# Altium footprint library HV9006_MEASUREBOARD.PCBLIB: 292 footprints (part 8 of 19)
Each footprint in its own frame and in the unit in brackets; x right, y up, seen from the top. Pads: shape width x height; smd on the part's side, far side on the other; paste and mask are expansions set on the pad; w line width, h text height; cw(c..) or ccw(c..) is an arc to the next point about the centre after c.
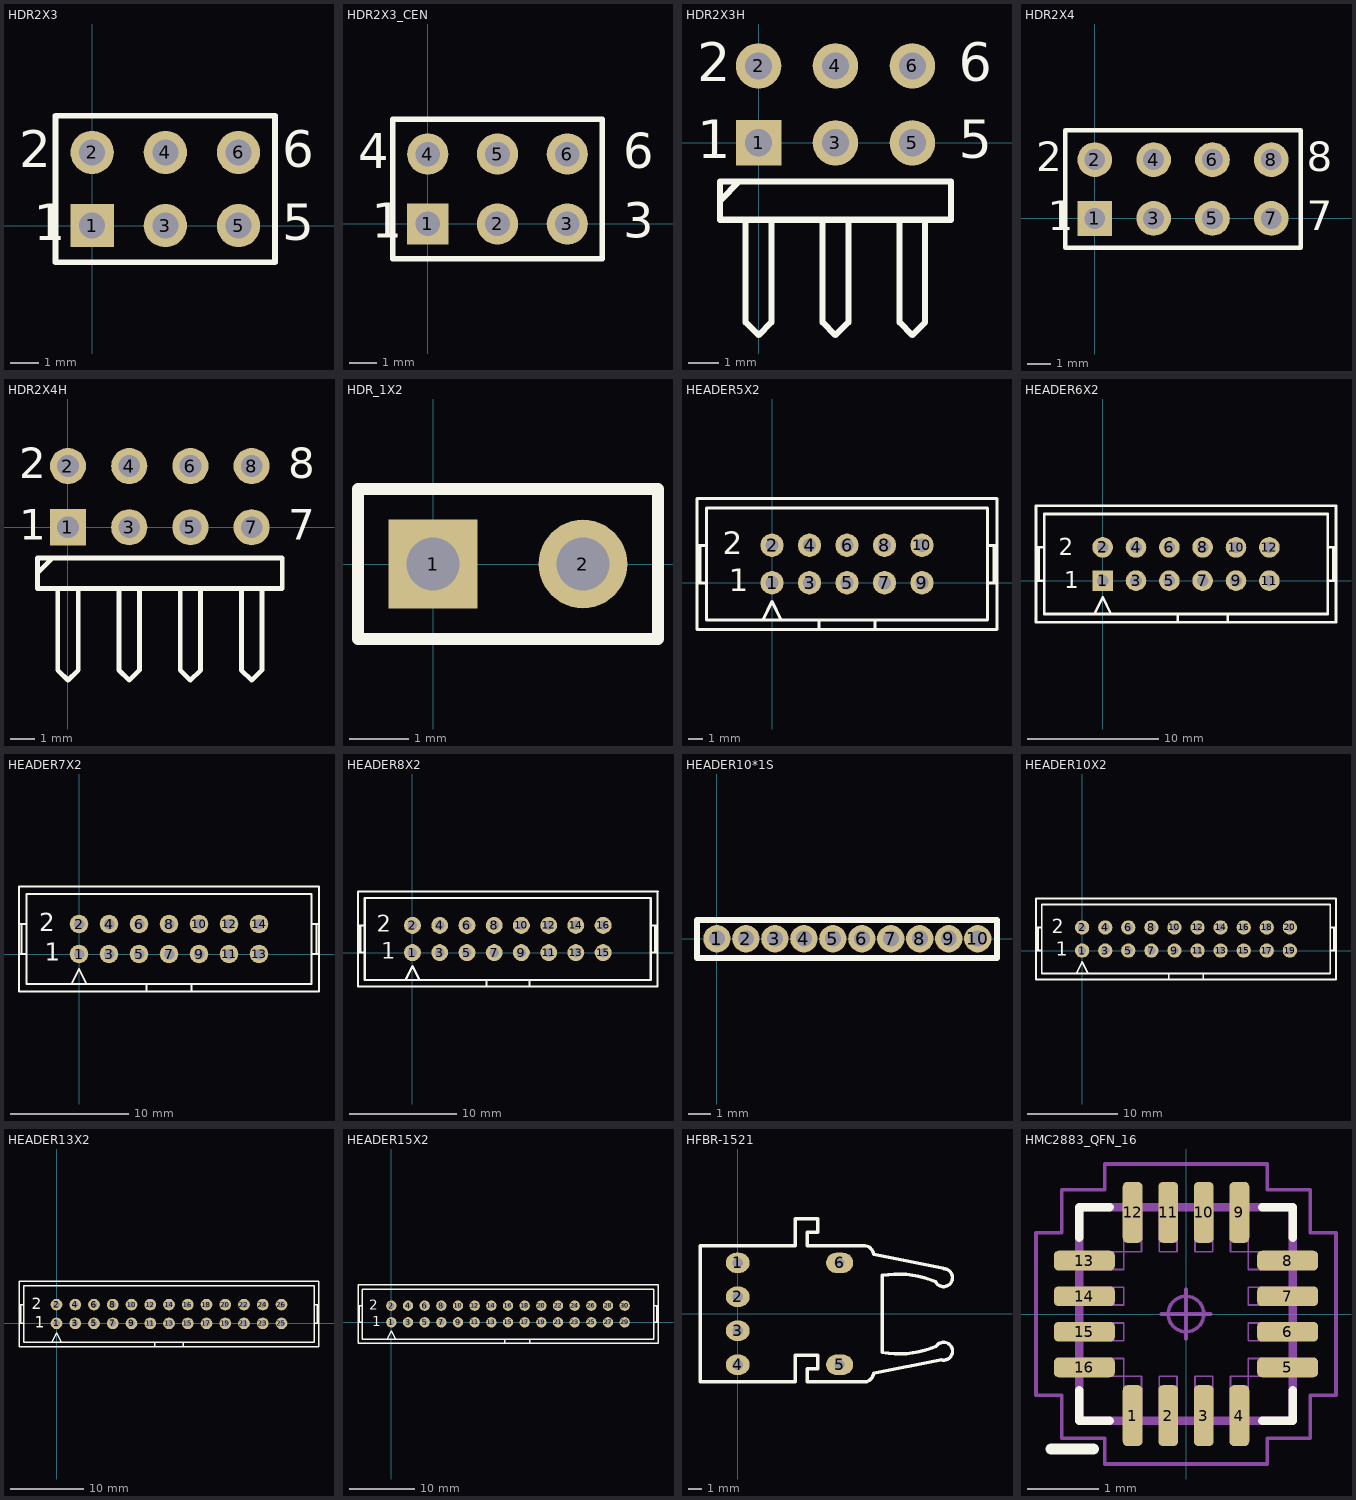
[diagram p7: the footprints below, top view; thin cyan lines are the x and y axes]

## HDR2X3 [mm] "Connector; Header; 3x2 Position"
pads (6):
  rect 1.5x1.5 hole 0.9: 1(0,0)
  round 1.5 hole 0.9: 2(0,2.54) 3(2.54,0) 4(2.54,2.54) 5(5.08,0) 6(5.08,2.54)
Top Overlay:
  lines w0.2: 1.482,-1.27 6.35,-1.27 ; 6.35,-1.27 -1.27,-1.27 -1.27,3.81 6.35,3.81 6.35,-1.27
  text "1" at -2.032,-0.508 h1.27
  text "2" at -2.54,2.032 h1.27
  text "5" at 6.604,-0.508 h1.27
  text "6" at 6.604,2.032 h1.27

## HDR2X3_CEN [mm] "Connector; Header; 3x2 Position"
pads (6):
  rect 1.5x1.5 hole 0.9: 1(0,0)
  round 1.5 hole 0.9: 2(2.54,0) 3(5.08,0) 4(0,2.54) 5(2.54,2.54) 6(5.08,2.54)
Top Overlay:
  lines w0.2: -1.27,-1.27 6.35,-1.27 6.35,3.81 -1.27,3.81 -1.27,-1.27
  text "6" at 7.112,2.032 h1.27
  text "3" at 7.112,-0.508 h1.27
  text "1" at -2.032,-0.508 h1.27
  text "4" at -2.54,2.032 h1.27

## HDR2X3H [mm] "Connector; Header; 3x2 Position; Right Angle"
pads (6):
  rect 1.5x1.5 hole 0.9: 1(0,0)
  round 1.5 hole 0.9: 2(0,2.54) 3(2.54,0) 4(2.54,2.54) 5(5.08,0) 6(5.08,2.54)
Top Overlay:
  lines w0.2: -1.27,-1.905 -0.635,-1.27 ; -0.423,-2.54 -0.423,-5.927 0,-6.35 0.423,-5.927 0.423,-2.54 ; 2.117,-2.54 2.117,-5.927 2.54,-6.35 2.963,-5.927 2.963,-2.54 ; 4.657,-2.54 4.657,-5.927 5.08,-6.35 5.503,-5.927 5.503,-2.54 ; -1.27,-2.54 6.35,-2.54 6.35,-1.27 -1.27,-1.27 -1.27,-2.54
  text "2" at -2.032,2.032 h1.27
  text "1" at -2.032,-0.508 h1.27
  text "5" at 6.604,-0.508 h1.27
  text "6" at 6.604,2.032 h1.27

## HDR2X4 [mm] "Connector; Header; 4x2 Position"
pads (8):
  rect 1.5x1.5 hole 0.9: 1(0,0)
  round 1.5 hole 0.9: 2(0,2.54) 3(2.54,0) 4(2.54,2.54) 5(5.08,0) 6(5.08,2.54) 7(7.62,0) 8(7.62,2.54)
Top Overlay:
  lines w0.2: -1.27,-1.27 -1.27,3.81 8.89,3.81 8.89,-1.27 -1.27,-1.27
  text "8" at 9.144,2.032 h1.27
  text "7" at 9.144,-0.508 h1.27
  text "1" at -2.032,-0.508 h1.27
  text "2" at -2.54,2.032 h1.27

## HDR2X4H [mm] "Connector; Header; 4x2 Position; Right Angle"
pads (8):
  rect 1.5x1.5 hole 0.9: 1(0,0)
  round 1.5 hole 0.9: 2(0,2.54) 3(2.54,0) 4(2.54,2.54) 5(5.08,0) 6(5.08,2.54) 7(7.62,0) 8(7.62,2.54)
Top Overlay:
  lines w0.2: -1.27,-1.905 -0.635,-1.27 ; -0.423,-2.54 -0.423,-5.927 0,-6.35 0.423,-5.927 0.423,-2.54 ; 2.117,-2.54 2.117,-5.927 2.54,-6.35 2.963,-5.927 2.963,-2.54 ; 4.657,-2.54 4.657,-5.927 5.08,-6.35 5.503,-5.927 5.503,-2.54 ; 7.197,-2.54 7.197,-5.927 7.62,-6.35 8.043,-5.927 8.043,-2.54 ; -1.27,-2.54 -1.27,-1.27 8.89,-1.27 8.89,-2.54 -1.27,-2.54
  text "8" at 9.144,2.032 h1.27
  text "7" at 9.144,-0.508 h1.27
  text "1" at -2.032,-0.508 h1.27
  text "2" at -2.032,2.032 h1.27

## HDR_1X2 [mm] "Connector; Header; 2 Position"
pads (2):
  rect 1.5x1.5 hole 0.9: 1(0,0)
  round 1.5 hole 0.9: 2(2.54,0)
Top Overlay:
  lines w0.2: -1.27,-1.27 3.81,-1.27 3.81,1.27 -1.27,1.27 -1.27,-1.27
3D body "961102-6404-XX.stp": height 8.02, standoff -3.28, extent -1.24,-1.2 3.84,1.3

## HEADER5X2 [mil]
pads (10):
  round 62 hole 35: 1(0,0) 2(0,100) 3(100,0) 4(100,100) 5(200,0) 6(200,100) 7(300,0) 8(300,100) 9(400,0) 10(400,100)
Top Overlay:
  lines w8: -200,0 -175,0 ; -200,100 -175,100 ; -191.67,0 -191.67,100 ; -25,-100 0,-50 25,-100 ; 125,-125 125,-100 ; 275,-125 275,-100 ; 575,0 600,0 ; 575,100 600,100 ; 591.67,0 591.67,100 ; -200,-125 600,-125 600,225 -200,225 -200,-125 ; -175,-100 225,-100 375,-100 575,-100 575,200 -175,200 -175,-100
  text "2" at -132,76 h60
  text "1" at -115,-23 h60

## HEADER6X2 [mil]
pads (12):
  rect 62x62 hole 35: 1(0,0)
  round 62 hole 35: 2(0,100) 3(100,0) 4(100,100) 5(200,0) 6(200,100) 7(300,0) 8(300,100) 9(400,0) 10(400,100) 11(500,0) 12(500,100)
Top Overlay:
  lines w8: -200,0 -175,0 ; -200,100 -175,100 ; -191.67,0 -191.67,100 ; -25,-100 0,-50 25,-100 ; 225,-125 225,-100 ; 375,-125 375,-100 ; 675,0 700,0 ; 675,100 700,100 ; 691.67,0 691.67,100 ; 225,-100 -175,-100 -175,200 675,200 675,-100 375,-100 ; 225,-100 375,-100 ; -200,-125 -200,225 700,225 700,-125 -200,-125
  text "1" at -115,-23 h50
  text "2" at -132,76 h50

## HEADER7X2 [mil]
pads (14):
  round 62 hole 35: 1(0,0) 2(0,100) 3(100,0) 4(100,100) 5(200,0) 6(200,100) 7(300,0) 8(300,100) 9(400,0) 10(400,100) 11(500,0) 12(500,100) 13(600,0) 14(600,100)
Top Overlay:
  lines w8: -200,0 -175,0 ; -200,100 -175,100 ; -191.67,0 -191.67,100 ; -25,-100 0,-50 25,-100 ; 225,-125 225,-100 ; 375,-125 375,-100 ; 775,0 800,0 ; 775,100 800,100 ; 791.67,0 791.67,100 ; 225,-100 -175,-100 -175,200 775,200 775,-100 375,-100 ; 225,-100 375,-100 ; -200,-125 -200,225 800,225 800,-125 -200,-125
  text "1" at -115,-23 h60
  text "2" at -132,76 h60

## HEADER8X2 [mil]
pads (16):
  round 62 hole 35: 1(0,0) 2(0,100) 3(100,0) 4(100,100) 5(200,0) 6(200,100) 7(300,0) 8(300,100) 9(400,0) 10(400,100) 11(500,0) 12(500,100) 13(600,0) 14(600,100) 15(700,0) 16(700,100)
Top Overlay:
  lines w8: -200,0 -175,0 ; -200,100 -175,100 ; -191.67,0 -191.67,100 ; -25,-100 0,-50 25,-100 ; 272.24,-125 272.24,-100 ; 430.12,-125 430.12,-100 ; 874.02,200.79 -175,200 -175,-100 272.24,-100 ; 875,0 900,0 ; 875,100 900,100 ; 875,200 875,-100 430.12,-100 ; 891.67,0 891.67,100 ; 900,225 900,-125 -200,-125 -200,225 901.57,224.41 ; 272.24,-100 430.12,-100
  text "2" at -132,76 h60
  text "1" at -115,-23 h60

## HEADER10*1S [mm]
pads (10):
  round 1.2 hole 0.7: 1(0,0) 2(1.27,0) 3(2.54,0) 4(3.81,0) 5(5.08,0) 6(6.35,0) 7(7.62,0) 8(8.89,0) 9(10.16,0) 10(11.43,0)
Top Overlay:
  lines w0.254: -0.875,-0.85 -0.875,0.825 12.275,0.825 12.275,-0.85 -0.875,-0.85

## HEADER10X2 [mil]
pads (20):
  round 62 hole 35: 1(0,0) 2(0,100) 3(100,0) 4(100,100) 5(200,0) 6(200,100) 7(300,0) 8(300,100) 9(400,0) 10(400,100) 11(500,0) 12(500,100) 13(600,0) 14(600,100) 15(700,0) 16(700,100) 17(800,0) 18(800,100) 19(900,0) 20(900,100)
Top Overlay:
  lines w8: -200,0 -175,0 ; -200,100 -175,100 ; -191.67,0 -191.67,100 ; -25,-100 0,-50 25,-100 ; 375,-125 375,-100 ; 525,-125 525,-100 ; 1075,0 1100,0 ; 1075,100 1100,100 ; 1091.67,0 1091.67,100 ; 375,-100 225,-100 -175,-100 -175,200 1075,200 1075,-100 375,-100 ; -200,-125 1100,-125 1100,225 -200,225 -200,-125
  text "2" at -132,76 h60
  text "1" at -115,-23 h60

## HEADER13X2 [mil]
pads (26):
  round 62 hole 35: 1(0,0) 2(0,100) 3(100,0) 4(100,100) 5(200,0) 6(200,100) 7(300,0) 8(300,100) 9(400,0) 10(400,100) 11(500,0) 12(500,100) 13(600,0) 14(600,100) 15(700,0) 16(700,100) 17(800,0) 18(800,100) 19(900,0) 20(900,100) 21(1000,0) 22(1000,100) 23(1100,0) 24(1100,100) 25(1200,0) 26(1200,100)
Top Overlay:
  lines w8: -200,0 -175,0 ; -200,100 -175,100 ; -191.67,0 -191.67,100 ; -25,-100 0,-50 25,-100 ; 525,-125 525,-100 ; 675,-125 675,-100 ; 1375,0 1400,0 ; 1375,100 1400,100 ; 1391.67,0 1391.67,100 ; -200,-125 -200,225 1400,225 1400,-125 -200,-125 ; -175,-100 -175,200 1375,200 1375,-100 375,-100 225,-100 -175,-100
  text "1" at -115,-23 h60
  text "2" at -132,76 h60

## HEADER15X2 [mil]
pads (30):
  round 62 hole 35: 1(0,0) 2(0,100) 3(100,0) 4(100,100) 5(200,0) 6(200,100) 7(300,0) 8(300,100) 9(400,0) 10(400,100) 11(500,0) 12(500,100) 13(600,0) 14(600,100) 15(700,0) 16(700,100) 17(800,0) 18(800,100) 19(900,0) 20(900,100) 21(1000,0) 22(1000,100) 23(1100,0) 24(1100,100) 25(1200,0) 26(1200,100) 27(1300,0) 28(1300,100) 29(1400,0) 30(1400,100)
Top Overlay:
  lines w8: -200,0 -175,0 ; -200,100 -175,100 ; -191.67,0 -191.67,100 ; -25,-100 0,-50 25,-100 ; 680,-125 680,-100 ; 830,-125 830,-100 ; 1375,100 1400,100 ; 1575,0 1600,0 ; 1575,100 1600,100 ; 1591.67,0 1591.67,100 ; -200,-125 -200,225 1600,225 1600,-125 -200,-125 ; -175,-100 -175,200 1575,200 1575,-100 375,-100 225,-100 -175,-100
  text "1" at -115,-23 h60
  text "2" at -132,76 h60

## HFBR-1521 [mil]
pads (6):
  oval 70x60 hole 30: 1(0,150) 2(0,50) 3(0,-50) 4(0,-150)
  oval 80x60 hole 30: 5(300,-150) 6(300,150)
Top Overlay:
  lines w10: 584.54,-95.27 cw(c606.3,-110.24) 599.89,-135.86 400,-175 cw(c372.15,-172.93) 370.08,-200.79 204.72,-200.79 204.72,-161.42 236.22,-161.42 236.22,-122.05 169.29,-122.05 169.29,-200.79 -110.24,-200.79 -110.24,200.79 169.29,200.79 169.29,279.53 236.22,279.53 236.22,240.16 204.72,240.16 204.72,200.79 370.08,200.79 cw(c372.15,172.93) 400,175 606.3,133.86 ; 584.78,-95.44 cw(c474.14,161.53) 426.22,-114.11 426.06,113.03 cw(c472.82,-162.82) 582.68,94.49 ccw(c606.3,106.3) 606.3,132.71

## HMC2883_QFN_16 [mm]
pads (16):
  rrect50% 0.28x0.86 smd: 1(-0.75,-1.43) 2(-0.25,-1.43) 3(0.25,-1.43) 4(0.75,-1.43) 9(0.75,1.43) 10(0.25,1.43) 11(-0.25,1.43) 12(-0.75,1.43)
  rrect50% 0.86x0.28 smd: 5(1.43,-0.75) 6(1.43,-0.25) 7(1.43,0.25) 8(1.43,0.75) 13(-1.43,0.75) 14(-1.43,0.25) 15(-1.43,-0.25) 16(-1.43,-0.75)
Top Overlay:
  lines w0.12: -1.5,-1.07 -1.5,-1.5 -1.07,-1.5 ; -1.5,1.07 -1.5,1.5 -1.07,1.5 ; 1.07,-1.5 1.5,-1.5 1.5,-1.07 ; 1.07,1.5 1.5,1.5 1.5,1.07
  lines w0.152: -1.9,-1.9 -1.3,-1.9
Mechanical 11:
  lines w0.12: -1.5,-1.5 -1.5,1.5 1.5,1.5 1.5,-1.5 -1.5,-1.5
Mechanical 12:
  lines w0.025: -0.875,-0.875 -0.625,-0.875 -0.625,-1.5 -0.875,-1.5 -0.875,-0.875 ; -0.875,-0.875 -0.875,-0.625 -1.5,-0.625 -1.5,-0.875 -0.875,-0.875 ; -0.875,0.875 -0.625,0.875 -0.625,1.5 -0.875,1.5 -0.875,0.875 ; -0.875,0.875 -0.875,0.625 -1.5,0.625 -1.5,0.875 -0.875,0.875 ; 0.875,-0.875 0.625,-0.875 0.625,-1.5 0.875,-1.5 0.875,-0.875 ; 0.875,-0.875 0.875,-0.625 1.5,-0.625 1.5,-0.875 0.875,-0.875 ; 0.875,0.875 0.875,0.625 1.5,0.625 1.5,0.875 0.875,0.875 ; 0.875,0.875 0.625,0.875 0.625,1.5 0.875,1.5 0.875,0.875 ; -1.5,-1.5 -1.5,1.5 1.5,1.5 1.5,-1.5 -1.5,-1.5 ; -1.5,-0.375 -0.875,-0.375 -0.875,-0.125 -1.5,-0.125 -1.5,-0.375 ; -1.5,0.125 -0.875,0.125 -0.875,0.375 -1.5,0.375 -1.5,0.125 ; -0.375,-1.5 -0.125,-1.5 -0.125,-0.875 -0.375,-0.875 -0.375,-1.5 ; -0.375,0.875 -0.125,0.875 -0.125,1.5 -0.375,1.5 -0.375,0.875 ; 0.125,-1.5 0.375,-1.5 0.375,-0.875 0.125,-0.875 0.125,-1.5 ; 0.125,0.875 0.375,0.875 0.375,1.5 0.125,1.5 0.125,0.875 ; 0.875,-0.375 0.875,-0.125 1.5,-0.125 1.5,-0.375 0.875,-0.375 ; 0.875,0.125 0.875,0.375 1.5,0.375 1.5,0.125 0.875,0.125
Mechanical 15:
  circle w0.05: c0,0 r0.25
  lines w0.05: -0.35,0 0.35,0 ; 0,-0.35 0,0.35 ; -2.11,-1.14 -2.11,1.14 -1.75,1.14 -1.75,1.75 -1.14,1.75 -1.14,2.11 1.14,2.11 1.14,1.75 1.75,1.75 1.75,1.14 2.11,1.14 2.11,-1.14 1.75,-1.14 1.75,-1.75 1.14,-1.75 1.14,-2.11 -1.14,-2.11 -1.14,-1.75 -1.75,-1.75 -1.75,-1.14 -2.11,-1.14
Mechanical 16:
  text ".Designator" at 0,0 h1.2
3D body: height 0.9, standoff 0, extent -1.5,-1.5 1.5,1.5